# EAGLE library part RES_ARRAY (library StasDuinoLib2)
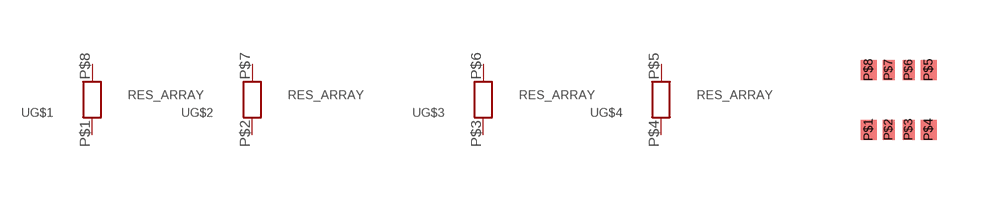
[diagram p3: symbol with the pads of RES_ARRAY; footprint RES_ARRAY]

Designator prefix -; gates G$1=RES_ARRAY G$2=RES_ARRAY G$3=RES_ARRAY G$4=RES_ARRAY

## RES_ARRAY  [RES_ARRAY]
P$1  G$1:P$1
P$2  G$2:P$1
P$3  G$3:P$1
P$4  G$4:P$1
P$5  G$4:P$2
P$6  G$3:P$2
P$7  G$2:P$2
P$8  G$1:P$2

## Footprint RES_ARRAY (pad centres in mm)
smd 0.4 x 0.5: P$1 -0.75,-0.75; P$4 0.75,-0.75; P$5 0.75,0.75; P$8 -0.75,0.75
smd 0.3 x 0.5: P$2 -0.25,-0.75; P$3 0.25,-0.75; P$6 0.25,0.75; P$7 -0.25,0.75